# Altium schematic symbol library LDL212.SchLib: 1 symbol
Pins are listed as number, name and electrical type; pins without a type are passive.

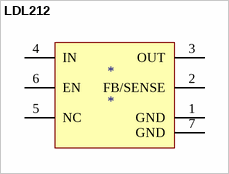
[diagram p0: symbol LDL212]

## LDL212
designator *
footprint DFN6 3X3 (DFN, 6-Leads, Body 3,00x3,00mm, Pitch 0,95mm, Thermal Pad 2,50x1,48mm, IPC Medium Density)
pins: 1 GND, 2 FB/SENSE, 3 OUT, 4 IN, 5 NC, 6 EN, 7 GND